# Altium schematic symbol library Rising Clamp System WR-TBL_9.52 mm.SchLib: 2 symbols
Pins are listed as number, name and electrical type; pins without a type are passive.

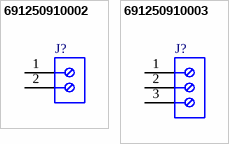
[diagram p0: symbols 691250910002 to 691250910003]

## 691250910002
designator J?
Serie 2509 - 9.52 mm Horizontal Entry Modular with Rising Cage Clamp WR-TBL, 2 pin; Part Number: 691250910002; Pin Number: 2; Pitch: 9.52 mm; ComponentLink1Description: Manufacturer; ComponentLink1URL: http://www.we-online.de; ComponentLink2Description: Datasheet; ComponentLink2URL: http://katalog.we-online.de/em/datasheet/6912509100XX.pdf; Published Date: June 2018; Publisher: Wurth Elektronik; Operating Temperature: -30 to 120 degC; Mounting Technology: THT; Packaging: Box
footprint 691250910002
pins: 1, 2

## 691250910003
designator J?
Serie 2509 - 9.52 mm Horizontal Entry Modular with Rising Cage Clamp WR-TBL, 3 pin; Part Number: 691250910003; Pin Number: 3; Pitch: 9.52 mm; ComponentLink1Description: Manufacturer; ComponentLink1URL: http://www.we-online.de; ComponentLink2Description: Datasheet; ComponentLink2URL: http://katalog.we-online.de/em/datasheet/6912509100XX.pdf; Published Date: June 2018; Publisher: Wurth Elektronik; Operating Temperature: -30 to 120 degC; Mounting Technology: THT; Packaging: Box
footprint 691250910003
pins: 1, 2, 3